# EAGLE library part VNH5019REAL (library Custom)
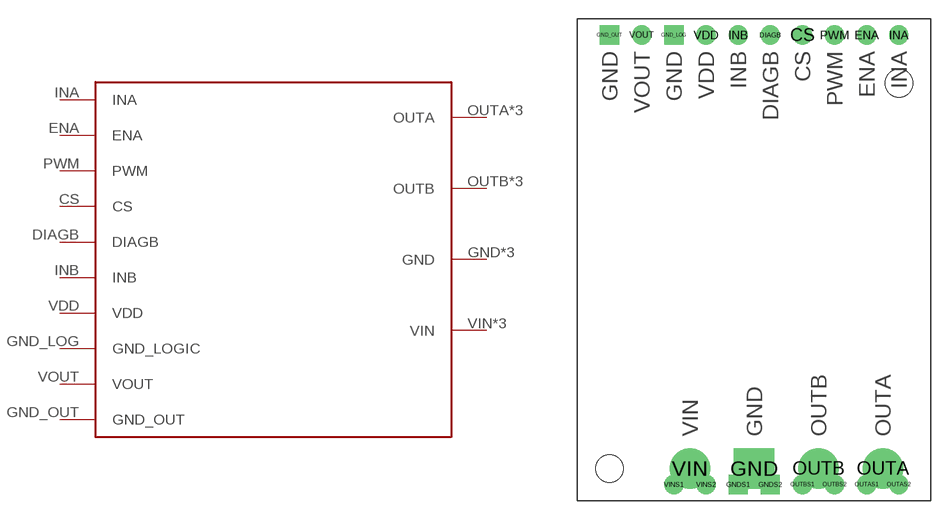
[diagram p1: symbol with the pads of MULTIPOWERSO-302; footprint MULTIPOWERSO-302]

Designator prefix -

## VNH5019REAL  [MULTIPOWERSO-302]
CS  CS
DIAGB  DIAGB
ENA  ENA
GND  GND
GND_LOG  GND_LOGIC
GND_OUT  GND_OUT
GNDS1  GND
GNDS2  GND
INA  INA
INB  INB
OUTA  OUTA
OUTAS1  OUTA
OUTAS2  OUTA
OUTB  OUTB
OUTBS1  OUTB
OUTBS2  OUTB
PWM  PWM
VDD  VDD
VIN  VIN
VINS1  VIN
VINS2  VIN
VOUT  VOUT

## Footprint MULTIPOWERSO-302 (pad centres in mm)
MultiPowerSO-30 Source: http://pdf1.alldatasheet.com/datasheet-pdf/view/84563/STMICROELECTRONICS/VNH3SP30.html
drill 1.016: CS 3.81,16.51; DIAGB 1.27,16.51; ENA 8.89,16.51; INA 11.43,16.51; INB -1.27,16.51; OUTAS1 8.89,-19.05; OUTAS2 11.43,-19.05; OUTBS1 3.81,-19.05; OUTBS2 6.35,-19.05; PWM 6.35,16.51; VDD -3.81,16.51; VINS1 -6.35,-19.05; VINS2 -3.81,-19.05; VOUT -8.89,16.51
drill 2.184 square: GND 0,-17.78
drill 1.016 square: GND_LOG -6.35,16.51; GND_OUT -11.43,16.51; GNDS1 -1.27,-19.05; GNDS2 1.27,-19.05
drill 2.184: OUTA 10.16,-17.78; OUTB 5.08,-17.78; VIN -5.08,-17.78
hole 2.184 at -11.43,-17.78
hole 2.184 at 11.43,12.7